# Altium schematic symbol library Conn,USB.Micro_B,SMD.Schlib: 1 symbol
Pins are listed as number, name and electrical type; pins without a type are passive.

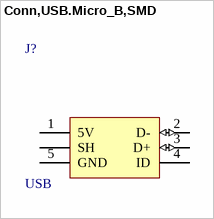
[diagram p0: symbol Conn,USB.Micro_B,SMD]

## Conn,USB.Micro_B,SMD
designator J?, comment USB
USB - micro B USB 2.0 Receptacle Connector 5 Position Surface Mount, Right Angle; Through Hole
pins: 0 SH, 1 5V (power), 2 D- (io), 3 D+ (io), 4 ID, 5 GND (power)